# Altium footprint library Maxim Sensors.PcbLib: 239 footprints (part 11 of 15)
Each footprint in its own frame and in the unit in brackets; x right, y up, seen from the top. Pads: shape width x height; smd on the part's side, far side on the other; paste and mask are expansions set on the pad; w line width, h text height; cw(c..) or ccw(c..) is an arc to the next point about the centre after c.
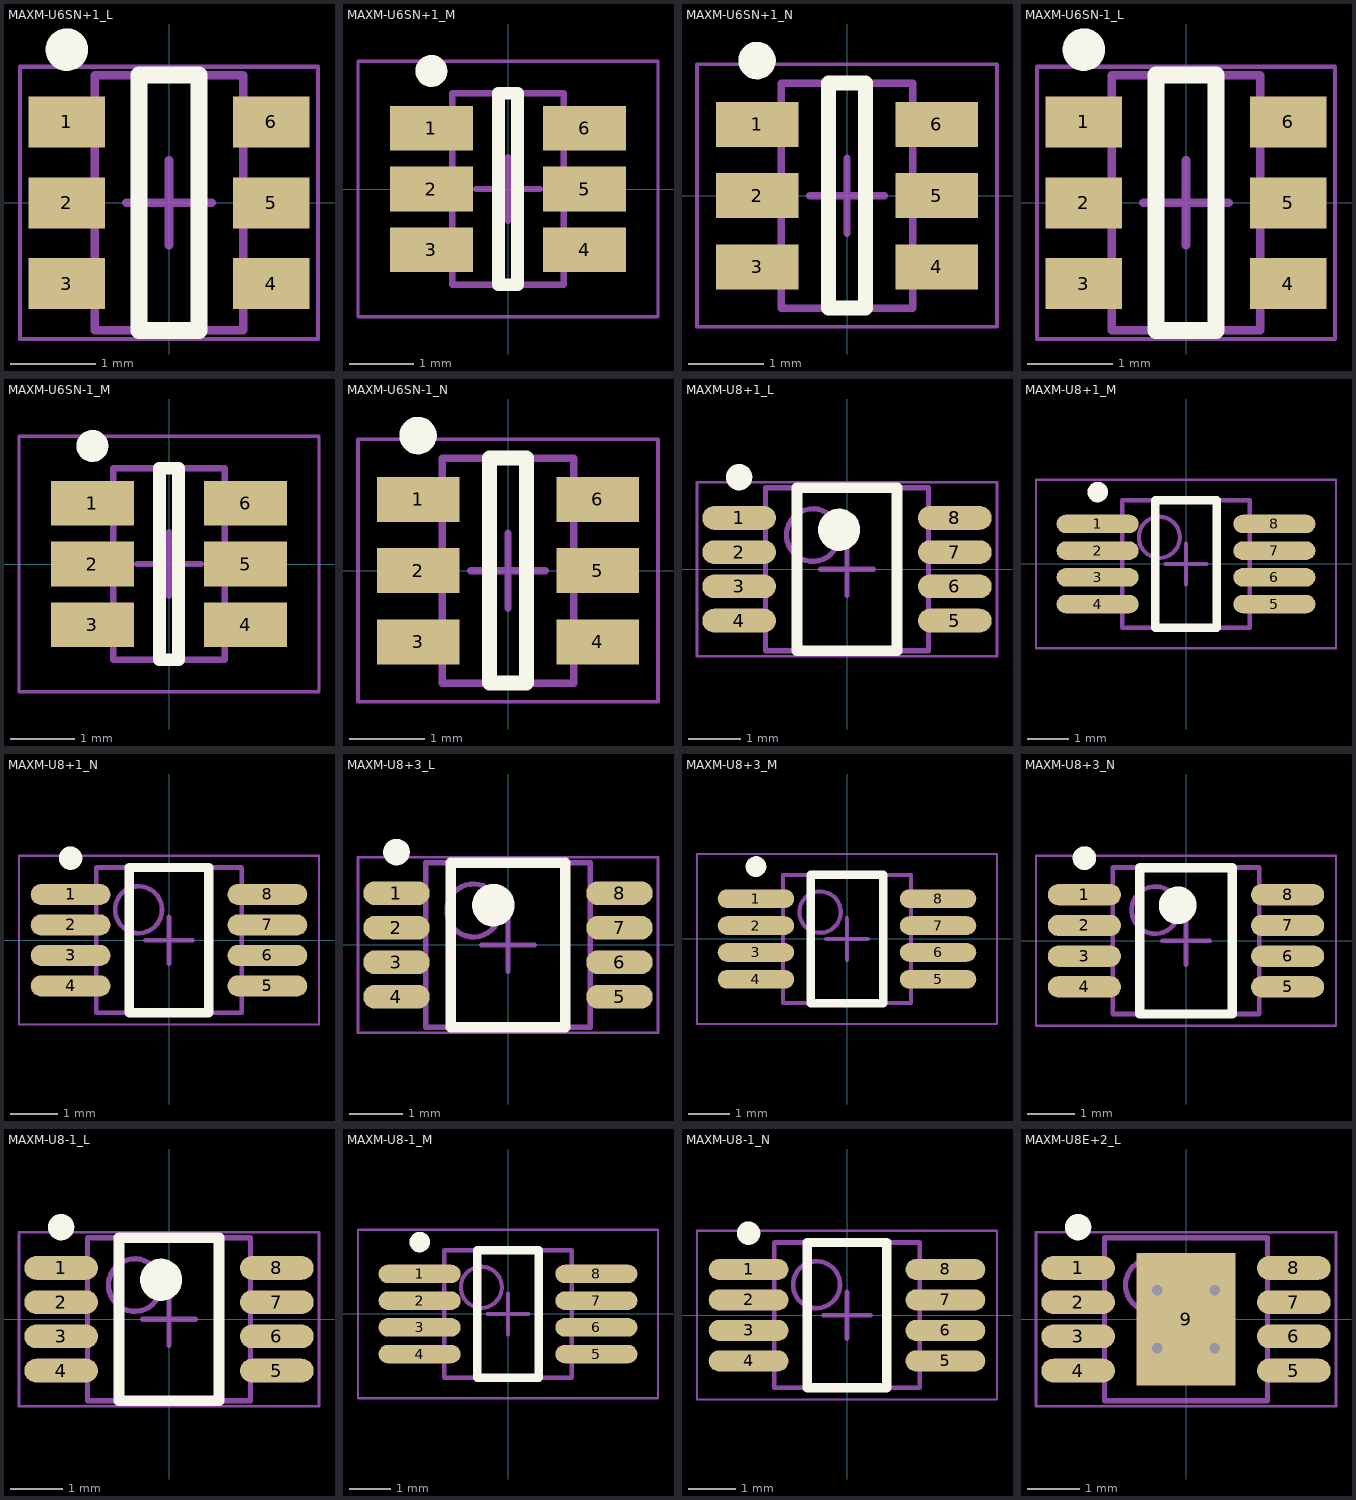
[diagram p10: the footprints below, top view; thin cyan lines are the x and y axes]

## MAXM-U6SN+1_L [mm] "SOT23, 6-Leads, Body 2.9x1.625mm, Pitch 0.95mm, IPC High Density"
height 1.45
pads (6):
  rect 0.9x0.6 smd: 1(-1.2,0.95) 2(-1.2,0) 3(-1.2,-0.95) 4(1.2,-0.95) 5(1.2,0) 6(1.2,0.95)
Top Overlay:
  circle w0.25: c-1.2,1.8 r0.125
  lines w0.2: -0.35,-1.5 -0.35,1.5 0.35,1.5 0.35,-1.5 -0.35,-1.5
Mechanical 13:
  lines w0.1: -0.875,-1.5 0.875,-1.5 0.875,1.5 -0.875,1.5 -0.875,-1.5
Mechanical 15:
  lines w0.05: -1.75,-1.6 1.75,-1.6 1.75,1.6 -1.75,1.6 -1.75,-1.6
  lines w0.1: -0.5,0 0.5,0 ; 0,-0.5 0,0.5
3D body: height 1.45, standoff 0, extent -0.875,-1.5 0.875,1.5

## MAXM-U6SN+1_M [mm] "SOT23, 6-Leads, Body 2.9x1.625mm, Pitch 0.95mm, IPC Low Density"
height 1.45
pads (6):
  rect 1.3x0.7 smd: 1(-1.2,0.95) 2(-1.2,0) 3(-1.2,-0.95) 4(1.2,-0.95) 5(1.2,0) 6(1.2,0.95)
Top Overlay:
  circle w0.25: c-1.2,1.85 r0.125
  lines w0.2: -0.15,-1.5 0.15,-1.5 0.15,1.5 -0.15,1.5 -0.15,-1.5
Mechanical 13:
  lines w0.1: -0.875,-1.5 -0.875,1.5 0.875,1.5 0.875,-1.5 -0.875,-1.5
Mechanical 15:
  lines w0.05: -2.35,-2 -2.35,2 2.35,2 2.35,-2 -2.35,-2
  lines w0.1: -0.5,0 0.5,0 ; 0,-0.5 0,0.5
3D body: height 1.45, standoff 0, extent -0.875,-1.5 0.875,1.5

## MAXM-U6SN+1_N [mm] "SOT23, 6-Leads, Body 2.9x1.625mm, Pitch 0.95mm, IPC Medium Density"
height 1.45
pads (6):
  rect 1.1x0.6 smd: 1(-1.2,0.95) 2(-1.2,0) 3(-1.2,-0.95) 4(1.2,-0.95) 5(1.2,0) 6(1.2,0.95)
Top Overlay:
  circle w0.25: c-1.2,1.8 r0.125
  lines w0.2: -0.25,-1.5 -0.25,1.5 0.25,1.5 0.25,-1.5 -0.25,-1.5
Mechanical 13:
  lines w0.1: -0.875,-1.5 0.875,-1.5 0.875,1.5 -0.875,1.5 -0.875,-1.5
Mechanical 15:
  lines w0.05: -2,-1.75 2,-1.75 2,1.75 -2,1.75 -2,-1.75
  lines w0.1: -0.5,0 0.5,0 ; 0,-0.5 0,0.5
3D body: height 1.45, standoff 0, extent -0.875,-1.5 0.875,1.5

## MAXM-U6SN-1_L [mm] "SOT23, 6-Leads, Body 2.9x1.625mm, Pitch 0.95mm, IPC High Density"
height 1.45
pads (6):
  rect 0.9x0.6 smd: 1(-1.2,0.95) 2(-1.2,0) 3(-1.2,-0.95) 4(1.2,-0.95) 5(1.2,0) 6(1.2,0.95)
Top Overlay:
  circle w0.25: c-1.2,1.8 r0.125
  lines w0.2: -0.35,-1.5 -0.35,1.5 0.35,1.5 0.35,-1.5 -0.35,-1.5
Mechanical 13:
  lines w0.1: -0.875,-1.5 0.875,-1.5 0.875,1.5 -0.875,1.5 -0.875,-1.5
Mechanical 15:
  lines w0.05: -1.75,-1.6 1.75,-1.6 1.75,1.6 -1.75,1.6 -1.75,-1.6
  lines w0.1: -0.5,0 0.5,0 ; 0,-0.5 0,0.5
3D body: height 1.45, standoff 0, extent -0.875,-1.5 0.875,1.5

## MAXM-U6SN-1_M [mm] "SOT23, 6-Leads, Body 2.9x1.625mm, Pitch 0.95mm, IPC Low Density"
height 1.45
pads (6):
  rect 1.3x0.7 smd: 1(-1.2,0.95) 2(-1.2,0) 3(-1.2,-0.95) 4(1.2,-0.95) 5(1.2,0) 6(1.2,0.95)
Top Overlay:
  circle w0.25: c-1.2,1.85 r0.125
  lines w0.2: -0.15,-1.5 -0.15,1.5 0.15,1.5 0.15,-1.5 -0.15,-1.5
Mechanical 13:
  lines w0.1: -0.875,-1.5 0.875,-1.5 0.875,1.5 -0.875,1.5 -0.875,-1.5
Mechanical 15:
  lines w0.05: -2.35,-2 2.35,-2 2.35,2 -2.35,2 -2.35,-2
  lines w0.1: -0.5,0 0.5,0 ; 0,-0.5 0,0.5
3D body: height 1.45, standoff 0, extent -0.875,-1.5 0.875,1.5

## MAXM-U6SN-1_N [mm] "SOT23, 6-Leads, Body 2.9x1.625mm, Pitch 0.95mm, IPC Medium Density"
height 1.45
pads (6):
  rect 1.1x0.6 smd: 1(-1.2,0.95) 2(-1.2,0) 3(-1.2,-0.95) 4(1.2,-0.95) 5(1.2,0) 6(1.2,0.95)
Top Overlay:
  circle w0.25: c-1.2,1.8 r0.125
  lines w0.2: -0.25,-1.5 0.25,-1.5 0.25,1.5 -0.25,1.5 -0.25,-1.5
Mechanical 13:
  lines w0.1: -0.875,-1.5 -0.875,1.5 0.875,1.5 0.875,-1.5 -0.875,-1.5
Mechanical 15:
  lines w0.05: -2,-1.75 -2,1.75 2,1.75 2,-1.75 -2,-1.75
  lines w0.1: -0.5,0 0.5,0 ; 0,-0.5 0,0.5
3D body: height 1.45, standoff 0, extent -0.875,-1.5 0.875,1.5

## MAXM-U8+1_L [mm] "SOP, 8-Leads, Body 3x3mm, Pitch 0.65mm, IPC High Density"
height 1.1
pads (8):
  oval 1.4x0.45 smd: 1(-2.05,0.975) 2(-2.05,0.325) 3(-2.05,-0.325) 4(-2.05,-0.975) 5(2.05,-0.975) 6(2.05,-0.325) 7(2.05,0.325) 8(2.05,0.975)
Top Overlay:
  circle w0.25: c-2.05,1.75 r0.125
  circle w0.4: c-0.15,0.75 r0.2
  lines w0.2: -0.95,-1.55 -0.95,1.55 0.95,1.55 0.95,-1.55 -0.95,-1.55
Mechanical 13:
  circle w0.1: c-0.65,0.65 r0.5
  lines w0.1: -1.55,-1.55 -1.55,1.55 1.55,1.55 1.55,-1.55 -1.55,-1.55
Mechanical 15:
  lines w0.05: -2.85,-1.65 -2.85,1.65 2.85,1.65 2.85,-1.65 -2.85,-1.65
  lines w0.1: -0.5,0 0.5,0 ; 0,-0.5 0,0.5
3D body: height 1.1, standoff 0.05, extent -1.55,-1.55 1.55,1.55

## MAXM-U8+1_M [mm] "SOP, 8-Leads, Body 3x3mm, Pitch 0.65mm, IPC Low Density"
height 1.1
pads (8):
  oval 2x0.45 smd: 1(-2.15,0.975) 2(-2.15,0.325) 3(-2.15,-0.325) 4(-2.15,-0.975) 5(2.15,-0.975) 6(2.15,-0.325) 7(2.15,0.325) 8(2.15,0.975)
Top Overlay:
  circle w0.25: c-2.15,1.75 r0.125
  lines w0.2: -0.75,-1.55 -0.75,1.55 0.75,1.55 0.75,-1.55 -0.75,-1.55
Mechanical 13:
  circle w0.1: c-0.65,0.65 r0.5
  lines w0.1: -1.55,-1.55 -1.55,1.55 1.55,1.55 1.55,-1.55 -1.55,-1.55
Mechanical 15:
  lines w0.05: -3.65,-2.05 -3.65,2.05 3.65,2.05 3.65,-2.05 -3.65,-2.05
  lines w0.1: -0.5,0 0.5,0 ; 0,-0.5 0,0.5
3D body: height 1.1, standoff 0.05, extent -1.55,-1.55 1.55,1.55

## MAXM-U8+1_N [mm] "SOP, 8-Leads, Body 3x3mm, Pitch 0.65mm, IPC Medium Density"
height 1.1
pads (8):
  oval 1.7x0.45 smd: 1(-2.1,0.975) 2(-2.1,0.325) 3(-2.1,-0.325) 4(-2.1,-0.975) 5(2.1,-0.975) 6(2.1,-0.325) 7(2.1,0.325) 8(2.1,0.975)
Top Overlay:
  circle w0.25: c-2.1,1.75 r0.125
  lines w0.2: -0.85,-1.55 -0.85,1.55 0.85,1.55 0.85,-1.55 -0.85,-1.55
Mechanical 13:
  circle w0.1: c-0.65,0.65 r0.5
  lines w0.1: -1.55,-1.55 -1.55,1.55 1.55,1.55 1.55,-1.55 -1.55,-1.55
Mechanical 15:
  lines w0.05: -3.2,-1.8 -3.2,1.8 3.2,1.8 3.2,-1.8 -3.2,-1.8
  lines w0.1: -0.5,0 0.5,0 ; 0,-0.5 0,0.5
3D body: height 1.1, standoff 0.05, extent -1.55,-1.55 1.55,1.55

## MAXM-U8+3_L [mm] "SOP, 8-Leads, Body 3x3mm, Pitch 0.65mm, IPC High Density"
height 1.1
pads (8):
  oval 1.25x0.45 smd: 1(-2.1,0.975) 2(-2.1,0.325) 3(-2.1,-0.325) 4(-2.1,-0.975) 5(2.1,-0.975) 6(2.1,-0.325) 7(2.1,0.325) 8(2.1,0.975)
Top Overlay:
  circle w0.25: c-2.1,1.75 r0.125
  circle w0.4: c-0.275,0.75 r0.2
  lines w0.2: -1.075,-1.55 -1.075,1.55 1.075,1.55 1.075,-1.55 -1.075,-1.55
Mechanical 13:
  circle w0.1: c-0.65,0.65 r0.5
  lines w0.1: -1.55,-1.55 -1.55,1.55 1.55,1.55 1.55,-1.55 -1.55,-1.55
Mechanical 15:
  lines w0.05: -2.825,-1.65 -2.825,1.65 2.825,1.65 2.825,-1.65 -2.825,-1.65
  lines w0.1: -0.5,0 0.5,0 ; 0,-0.5 0,0.5
3D body: height 1.1, standoff 0.05, extent -1.55,-1.55 1.55,1.55

## MAXM-U8+3_M [mm] "SOP, 8-Leads, Body 3x3mm, Pitch 0.65mm, IPC Low Density"
height 1.1
pads (8):
  oval 1.85x0.45 smd: 1(-2.2,0.975) 2(-2.2,0.325) 3(-2.2,-0.325) 4(-2.2,-0.975) 5(2.2,-0.975) 6(2.2,-0.325) 7(2.2,0.325) 8(2.2,0.975)
Top Overlay:
  circle w0.25: c-2.2,1.75 r0.125
  lines w0.2: -0.875,-1.55 0.875,-1.55 0.875,1.55 -0.875,1.55 -0.875,-1.55
Mechanical 13:
  circle w0.1: c-0.65,0.65 r0.5
  lines w0.1: -1.55,-1.55 1.55,-1.55 1.55,1.55 -1.55,1.55 -1.55,-1.55
Mechanical 15:
  lines w0.05: -3.625,-2.05 3.625,-2.05 3.625,2.05 -3.625,2.05 -3.625,-2.05
  lines w0.1: -0.5,0 0.5,0 ; 0,-0.5 0,0.5
3D body: height 1.1, standoff 0.05, extent -1.55,-1.55 1.55,1.55

## MAXM-U8+3_N [mm] "SOP, 8-Leads, Body 3x3mm, Pitch 0.65mm, IPC Medium Density"
height 1.1
pads (8):
  oval 1.55x0.45 smd: 1(-2.15,0.975) 2(-2.15,0.325) 3(-2.15,-0.325) 4(-2.15,-0.975) 5(2.15,-0.975) 6(2.15,-0.325) 7(2.15,0.325) 8(2.15,0.975)
Top Overlay:
  circle w0.4: c-0.175,0.75 r0.2
  circle w0.25: c-2.15,1.75 r0.125
  lines w0.2: -0.975,-1.55 0.975,-1.55 0.975,1.55 -0.975,1.55 -0.975,-1.55
Mechanical 13:
  circle w0.1: c-0.65,0.65 r0.5
  lines w0.1: -1.55,-1.55 1.55,-1.55 1.55,1.55 -1.55,1.55 -1.55,-1.55
Mechanical 15:
  lines w0.05: -3.175,-1.8 3.175,-1.8 3.175,1.8 -3.175,1.8 -3.175,-1.8
  lines w0.1: -0.5,0 0.5,0 ; 0,-0.5 0,0.5
3D body: height 1.1, standoff 0.05, extent -1.55,-1.55 1.55,1.55

## MAXM-U8-1_L [mm] "SOP, 8-Leads, Body 3x3mm, Pitch 0.65mm, IPC High Density"
height 1.1
pads (8):
  oval 1.4x0.45 smd: 1(-2.05,0.975) 2(-2.05,0.325) 3(-2.05,-0.325) 4(-2.05,-0.975) 5(2.05,-0.975) 6(2.05,-0.325) 7(2.05,0.325) 8(2.05,0.975)
Top Overlay:
  circle w0.25: c-2.05,1.75 r0.125
  circle w0.4: c-0.15,0.75 r0.2
  lines w0.2: -0.95,-1.55 -0.95,1.55 0.95,1.55 0.95,-1.55 -0.95,-1.55
Mechanical 13:
  circle w0.1: c-0.65,0.65 r0.5
  lines w0.1: -1.55,-1.55 -1.55,1.55 1.55,1.55 1.55,-1.55 -1.55,-1.55
Mechanical 15:
  lines w0.05: -2.85,-1.65 -2.85,1.65 2.85,1.65 2.85,-1.65 -2.85,-1.65
  lines w0.1: -0.5,0 0.5,0 ; 0,-0.5 0,0.5
3D body: height 1.1, standoff 0.05, extent -1.55,-1.55 1.55,1.55

## MAXM-U8-1_M [mm] "SOP, 8-Leads, Body 3x3mm, Pitch 0.65mm, IPC Low Density"
height 1.1
pads (8):
  oval 2x0.45 smd: 1(-2.15,0.975) 2(-2.15,0.325) 3(-2.15,-0.325) 4(-2.15,-0.975) 5(2.15,-0.975) 6(2.15,-0.325) 7(2.15,0.325) 8(2.15,0.975)
Top Overlay:
  circle w0.25: c-2.15,1.75 r0.125
  lines w0.2: -0.75,-1.55 -0.75,1.55 0.75,1.55 0.75,-1.55 -0.75,-1.55
Mechanical 13:
  circle w0.1: c-0.65,0.65 r0.5
  lines w0.1: -1.55,-1.55 -1.55,1.55 1.55,1.55 1.55,-1.55 -1.55,-1.55
Mechanical 15:
  lines w0.05: -3.65,-2.05 -3.65,2.05 3.65,2.05 3.65,-2.05 -3.65,-2.05
  lines w0.1: -0.5,0 0.5,0 ; 0,-0.5 0,0.5
3D body: height 1.1, standoff 0.05, extent -1.55,-1.55 1.55,1.55

## MAXM-U8-1_N [mm] "SOP, 8-Leads, Body 3x3mm, Pitch 0.65mm, IPC Medium Density"
height 1.1
pads (8):
  oval 1.7x0.45 smd: 1(-2.1,0.975) 2(-2.1,0.325) 3(-2.1,-0.325) 4(-2.1,-0.975) 5(2.1,-0.975) 6(2.1,-0.325) 7(2.1,0.325) 8(2.1,0.975)
Top Overlay:
  circle w0.25: c-2.1,1.75 r0.125
  lines w0.2: -0.85,-1.55 -0.85,1.55 0.85,1.55 0.85,-1.55 -0.85,-1.55
Mechanical 13:
  circle w0.1: c-0.65,0.65 r0.5
  lines w0.1: -1.55,-1.55 -1.55,1.55 1.55,1.55 1.55,-1.55 -1.55,-1.55
Mechanical 15:
  lines w0.05: -3.2,-1.8 -3.2,1.8 3.2,1.8 3.2,-1.8 -3.2,-1.8
  lines w0.1: -0.5,0 0.5,0 ; 0,-0.5 0,0.5
3D body: height 1.1, standoff 0.05, extent -1.55,-1.55 1.55,1.55

## MAXM-U8E+2_L [mm] "SOP, 8-Leads, Body 3x3mm, Pitch 0.65mm, Thermal Pad 2.36x1.69 mm, IPC High Density"
height 1.1
pads (9):
  oval 1.4x0.45 smd: 1(-2.05,0.975) 2(-2.05,0.325) 3(-2.05,-0.325) 4(-2.05,-0.975) 5(2.05,-0.975) 6(2.05,-0.325) 7(2.05,0.325) 8(2.05,0.975)
  rect 1.88x2.52 smd: 9(0,0)
via -0.55,0.55 diameter 0.5 hole 0.2
via 0.55,0.55 diameter 0.5 hole 0.2
via -0.55,-0.55 diameter 0.5 hole 0.2
via 0.55,-0.55 diameter 0.5 hole 0.2
Top Overlay:
  circle w0.25: c-2.05,1.75 r0.125
Mechanical 13:
  circle w0.1: c-0.65,0.65 r0.5
  lines w0.1: -1.55,-1.55 -1.55,1.55 1.55,1.55 1.55,-1.55 -1.55,-1.55
Mechanical 15:
  lines w0.05: -2.85,-1.65 -2.85,1.65 2.85,1.65 2.85,-1.65 -2.85,-1.65
  lines w0.1: -0.5,0 0.5,0 ; 0,-0.5 0,0.5
3D body: height 1.1, standoff 0, extent -1.55,-1.55 1.55,1.55